# Altium footprint library 7S_WR.PcbLib: 75 footprints (part 3 of 5)
Each footprint in its own frame and in the unit in brackets; x right, y up, seen from the top. Pads: shape width x height; smd on the part's side, far side on the other; paste and mask are expansions set on the pad; w line width, h text height; cw(c..) or ccw(c..) is an arc to the next point about the centre after c.
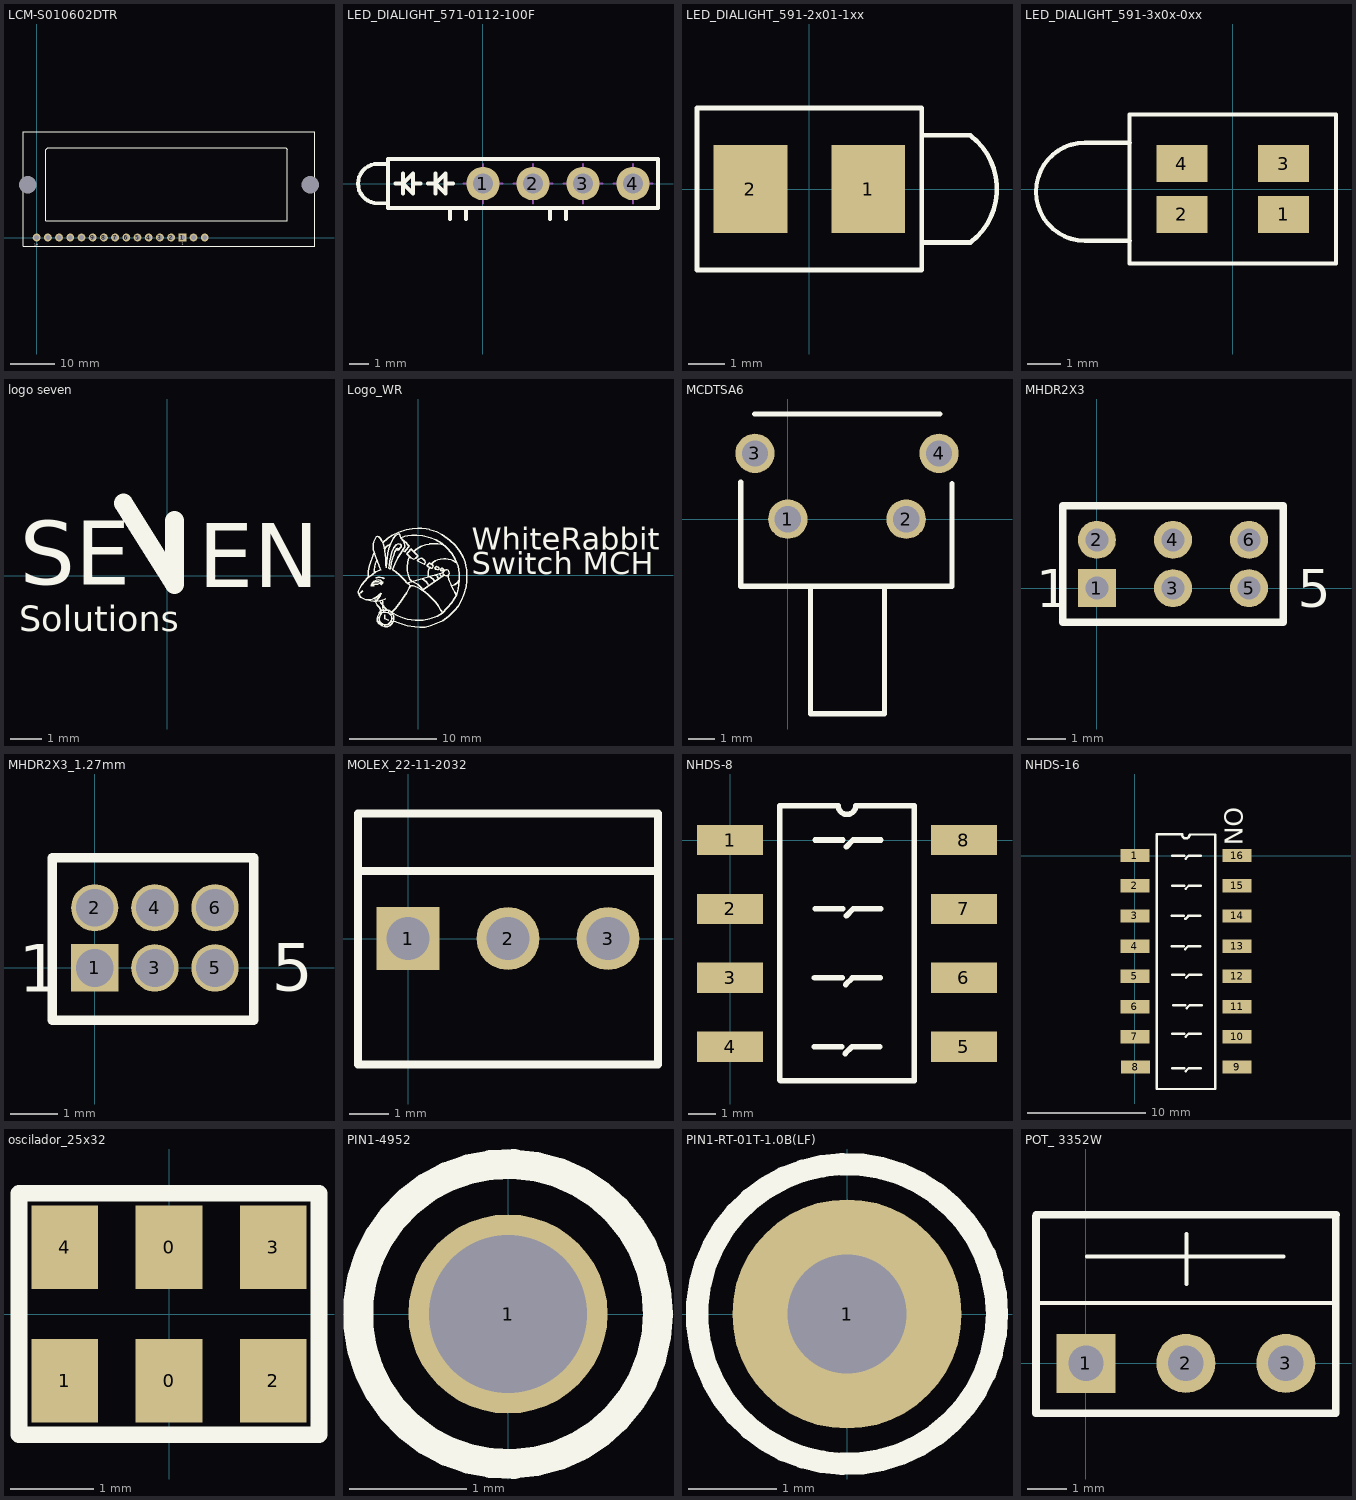
[diagram p2: the footprints below, top view; thin cyan lines are the x and y axes]

## LCM-S010602DTR [mm] "16x2 LCD, 2.54 Pitch"
pads (18):
  rect 1.8x1.8 hole 1.1: 1(33.02,0)
  round 1.8 hole 1.1: 2(30.48,0) 3(27.94,0) 4(25.4,0) 5(22.86,0) 6(20.32,0) 7(17.78,0) 8(15.24,0) 9(12.7,0) 10(10.16,0) 11(7.62,0) 12(5.08,0) 13(2.54,0) 14(0,0) 15(38.1,0) 16(35.56,0)
  round 1 hole 4 unplated mask+1.1: 17(-2,12) 18(62,12)
Top Overlay:
  lines w0.2: 2.05,3.83 2.05,19.925 2.52,20.395 56.42,20.395 56.845,19.97 56.845,3.795 ; 2.07,3.795 56.82,3.795 ; 62.99,-2 -3,-2 -3,24 63,24 63,-2
  text "14" at -0.585,-1.825 h0.52
  text "1" at 32.88,-1.595 h0.52

## LED_DIALIGHT_571-0112-100F [mm] "2x 2mm LED (Top: Red, Bot: Green) PCB Edge Mounting (With positioning pins) DIALIGHT 571 Serie"
height 8.6
pads (4):
  round 1.7 hole 1: 1(0,0) 2(2.54,0) 3(5.08,0) 4(7.62,0)
Top Overlay:
  lines w0.2: -4.83,-1 -5.35,-1 cw(c-5.35,0) -5.35,1 -4.83,1 ; -4.445,0 -4.064,0 ; -4.064,-0.508 -4.064,0.508 ; -3.556,0 -3.175,0 ; -3.46,-1.25 -4.83,-1.25 ; -3.46,1.25 -4.83,1.25 ; -2.794,0 -2.413,0 ; -2.413,-0.508 -2.413,0.508 ; -1.905,0 -1.524,0 ; -1.67,-1.8 -1.67,-1.25 ; -0.87,-1.8 -0.87,-1.25 ; 3.41,-1.8 3.41,-1.25 ; 4.21,-1.8 4.21,-1.25 ; -4.83,-1.25 -4.83,1.25 ; -4.83,-1.25 8.89,-1.25 8.89,1.25 -4.83,1.25 ; -4.064,0 -3.556,0.508 -3.556,-0.508 -4.064,0 ; -2.413,0 -1.905,0.508 -1.905,-0.508 -2.413,0
Mechanical 8:
  lines w0.1: -1,0 0,0 ; 0,-1 0,0 ; 0,1 0,0 ; 1,0 0,0 ; 1.54,0 2.54,0 ; 2.54,-1 2.54,0 ; 2.54,1 2.54,0 ; 3.54,0 2.54,0 ; 4.08,0 5.08,0 ; 5.08,-1 5.08,0 ; 5.08,1 5.08,0 ; 6.08,0 5.08,0 ; 6.62,0 7.62,0 ; 7.62,-1 7.62,0 ; 7.62,1 7.62,0 ; 8.62,0 7.62,0
Mechanical 14:
  lines w0.1: -4.83,-1 -5.35,-1 cw(c-5.35,0) -5.35,1 -4.83,1 ; -4.445,0 -4.064,0 ; -3.556,0 -3.175,0 ; -3.46,-1.25 -4.83,-1.25 ; -3.46,1.25 -4.83,1.25 ; -2.794,0 -2.413,0 ; -1.905,0 -1.524,0 ; -4.83,-1.25 -4.83,1.25 ; -4.83,-1.25 8.89,-1.25 8.89,1.25 -4.83,1.25 ; -4.064,-0.508 -4.064,0.508 ; -4.064,-0.508 -4.064,0.508 ; -4.064,-0.508 -4.064,0.508 ; -4.064,0 -3.556,-0.508 ; -4.064,0 -3.556,0.508 ; -4.064,0 -3.556,0.508 ; -4.064,0 -3.556,-0.508 ; -4.064,0 -3.556,-0.508 ; -4.064,0 -3.556,0.508 ; -3.556,-0.508 -3.556,0.508 ; -3.556,-0.508 -3.556,0.508 ; -3.556,-0.508 -3.556,0.508 ; -2.413,-0.508 -2.413,0.508 ; -2.413,-0.508 -2.413,0.508 ; -2.413,-0.508 -2.413,0.508 ; -2.413,0 -1.905,-0.508 ; -2.413,0 -1.905,0.508 ; -2.413,0 -1.905,0.508 ; -2.413,0 -1.905,-0.508 ; -2.413,0 -1.905,-0.508 ; -2.413,0 -1.905,0.508 ; -1.905,-0.508 -1.905,0.508 ; -1.905,-0.508 -1.905,0.508 ; -1.905,-0.508 -1.905,0.508
3D body: height 8.6, standoff -3, extent -6.35,-2.52 8.89,1.25

## LED_DIALIGHT_591-2x01-1xx [mm] "LED SMD Right Angle, Body 4.3mmx6.1mm"
height 5
pads (2):
  rect 2x2.4 smd: 1(1.6,0) 2(-1.6,0)
Top Overlay:
  lines w0.127: 3.05,1.455 4.375,1.455 ; 3.051,-1.45 4.375,-1.45 ccw(c3.272,0) 4.375,1.45 ; -3.05,-2.2 -3.05,2.2 3.05,2.2 3.05,-2.2 -3.05,-2.2

## LED_DIALIGHT_591-3x0x-0xx [mm] "Bi-Color LED SMD Right Angle, Body 4.3mmx6.1mm"
height 5
pads (4):
  rect 1.5x1.1 smd: 1(1.5,-0.75) 2(-1.5,-0.75) 3(1.5,0.75) 4(-1.5,0.75)
Top Overlay:
  lines w0.127: -3.046,-1.53 -4.37,-1.53 cw(c-4.363,-0.08) -4.37,1.37 -3.045,1.37 ; -3.05,-2.2 -3.05,2.2 3.05,2.2 3.05,-2.2 -3.05,-2.2

## logo seven [mm]
Top Overlay:
  lines w0.6: -1.371,2.281 0.225,-0.267 0.225,1.735
  text "EN" at 0.98,-0.355 h2
  text "Solutions" at -4.65,-1.735 h0.8
  text "SE" at -4.62,-0.275 h2

## Logo_WR [mm]
Top Overlay:
  drawing of 475 lines, arcs and shapes, not listed
  text "WhiteRabbit" at 6.14,2.047 h4.32
  text "Switch MCH" at 6.14,-0.741 h4.32

## MCDTSA6 [mm] "SPNO Right Angle Switch, 6mm x 6mm"
height 7.2
pads (4):
  round 1.5 hole 1: 1(0,0) 2(4.5,0) 3(-1.25,2.5) 4(5.75,2.5)
Top Overlay:
  lines w0.2: -1.795,1.405 -1.795,-2.55 6.245,-2.55 6.245,1.345 ; -1.265,4 5.775,4 ; 3.675,-7.41 3.675,-2.56 0.865,-2.56 0.865,-7.4 3.675,-7.4

## MHDR2X3 [mm] "Connector; Header; 3x2 Position"
pads (6):
  rect 1x1 hole 0.6: 1(0,0)
  round 1 hole 0.6: 2(0,1.27) 3(2,0) 4(2,1.27) 5(4,0) 6(4,1.27)
Top Overlay:
  lines w0.2: -0.9,-0.9 -0.9,2.17 4.9,2.17 4.9,-0.9 -0.9,-0.9
  text "5" at 5.285,-0.508 h1
  text "1" at -1.6,-0.508 h1

## MHDR2X3_1.27mm [mm] "Connector; Header; 3x2 Position 1.27mm pitch"
pads (6):
  rect 1x1 hole 0.8: 1(0,0)
  round 1 hole 0.8: 2(0,1.27) 3(1.27,0) 4(1.27,1.27) 5(2.54,0) 6(2.54,1.27)
Top Overlay:
  lines w0.2: -0.9,-1.11 3.36,-1.11 3.36,2.33 -0.9,2.33 -0.9,-1.11
  text "1" at -1.6,-0.508 h1
  text "5" at 3.735,-0.48 h1

## MOLEX_22-11-2032 [mm] "CONN HEADER 3POS .100 VERT GOLD"
pads (3):
  rect 1.6x1.6 hole 1.1: 1(0,0)
  round 1.6 hole 1.1: 2(2.54,0) 3(5.08,0)
Top Overlay:
  lines w0.2: -1.27,-3.2 6.35,-3.2 6.35,3.175 -1.27,3.175 -1.27,-3.175 ; -1.27,1.715 6.35,1.715

## NHDS-8 [mm]
pads (8):
  rect 2.44x1.12 smd: 1(0,0) 2(0,-2.54) 3(0,-5.08) 4(0,-7.62) 5(8.61,-7.62) 6(8.61,-5.08) 7(8.61,-2.54) 8(8.61,0)
Top Overlay:
  lines w0.2: 1.845,1.26 3.988,1.26 ccw(c4.305,1.26) 4.623,1.26 6.78,1.26 6.78,0.635 ; 6.775,-8.87 6.775,0.635
  lines w0.203: 1.835,-3.01 1.835,1.26 ; 1.835,-2.884 1.835,-8.84 1.865,-8.87 5.497,-8.87 6.775,-8.87 ; 3.093,-7.615 3.601,-7.615 3.855,-7.615 4.109,-7.615 ; 3.108,-5.075 3.616,-5.075 3.87,-5.075 4.124,-5.075 ; 3.135,-2.54 3.643,-2.54 3.897,-2.54 4.151,-2.54 ; 3.135,0 3.643,0 3.897,0 4.151,0 ; 4.236,-7.869 4.49,-7.615 4.617,-7.615 4.998,-7.615 5.506,-7.615 ; 4.251,-5.329 4.505,-5.075 4.632,-5.075 5.013,-5.075 5.521,-5.075 ; 4.278,-2.794 4.532,-2.54 4.659,-2.54 5.04,-2.54 5.548,-2.54 ; 4.278,-0.254 4.532,0 4.659,0 5.04,0 5.548,0

## NHDS-16 [mm] "SMD DIP Switch 2.54mm pitch"
pads (16):
  rect 2.44x1.12 smd: 1(0,0) 2(0,-2.54) 3(0,-5.08) 4(0,-7.62) 5(0,-10.16) 6(0,-12.7) 7(0,-15.24) 8(0.06,-17.78) 9(8.61,-17.78) 10(8.61,-15.24) 11(8.61,-12.7) 12(8.61,-10.16) 13(8.61,-7.62) 14(8.61,-5.08) 15(8.61,-2.54) 16(8.61,0)
Top Overlay:
  lines w0.2: 1.835,1.775 3.975,1.775 ; 3.975,1.755 ccw(c4.293,1.755) 4.61,1.755 ; 4.61,1.765 6.775,1.765 6.775,-19.625
  lines w0.203: 1.835,1.775 1.835,-19.625 6.775,-19.625 ; 3.093,-7.615 3.601,-7.615 3.855,-7.615 4.109,-7.615 ; 3.108,-5.075 3.616,-5.075 3.87,-5.075 4.124,-5.075 ; 3.135,-17.865 3.643,-17.865 3.897,-17.865 4.151,-17.865 ; 3.135,-14.965 3.643,-14.965 3.897,-14.965 4.151,-14.965 ; 3.135,-2.54 3.643,-2.54 3.897,-2.54 4.151,-2.54 ; 3.135,0 3.643,0 3.897,0 4.151,0 ; 3.16,-10.02 3.668,-10.02 3.922,-10.02 4.176,-10.02 ; 3.21,-12.585 3.718,-12.585 3.972,-12.585 4.226,-12.585 ; 4.236,-7.869 4.49,-7.615 4.617,-7.615 4.998,-7.615 5.506,-7.615 ; 4.251,-5.329 4.505,-5.075 4.632,-5.075 5.013,-5.075 5.521,-5.075 ; 4.278,-18.119 4.532,-17.865 4.659,-17.865 5.04,-17.865 5.548,-17.865 ; 4.278,-15.219 4.532,-14.965 4.659,-14.965 5.04,-14.965 5.548,-14.965 ; 4.278,-2.794 4.532,-2.54 4.659,-2.54 5.04,-2.54 5.548,-2.54 ; 4.278,-0.254 4.532,0 4.659,0 5.04,0 5.548,0 ; 4.303,-10.274 4.557,-10.02 4.684,-10.02 5.065,-10.02 5.573,-10.02 ; 4.353,-12.839 4.607,-12.585 4.734,-12.585 5.115,-12.585 5.623,-12.585
  text "ON" at 7.58,4.07 h1.52

## oscilador_25x32 [mm]
pads (6):
  rect 0.8x1 smd: 0(0,-0.8) 0(0,0.8) 1(-1.25,-0.8) 2(1.25,-0.8) 3(1.25,0.8) 4(-1.25,0.8)
Top Overlay:
  lines w0.2: -1.8,-1.45 -1.8,1.45 1.8,1.45 1.8,-1.45 -1.8,-1.45

## PIN1-4952 [mm] "PCB Test Point 1.35mm Hole Diameter 11.3mm Height"
height 11.3
pads (1):
  round 1.7 hole 1.35: 1(0,0)
Top Overlay:
  circle w0.254: c0,0 r1.28

## PIN1-RT-01T-1.0B(LF) [mm] "PCB Test Point 1.35mm Hole Diameter 11.1mm Height"
height 11.1
pads (1):
  round 2.6 hole 1.35: 1(0,0)
Top Overlay:
  circle w0.254: c0,0 r1.7

## POT_ 3352W [mm] "Potentiometer TH 2.54mm pitch"
pads (3):
  rect 1.5x1.5 hole 0.9: 1(0,0)
  round 1.5 hole 0.9: 2(2.54,0) 3(5.08,0)
Top Overlay:
  lines w0.1: -1.165,1.535 6.295,1.535 6.315,1.515 ; 0.02,2.71 5.02,2.71 ; 2.55,2.02 2.55,3.285
  lines w0.2: -1.27,3.73 -1.27,-1.27 6.35,-1.27 6.35,3.71 ; -1.265,3.775 6.355,3.775